# EAGLE library part 43650-0513-7 (library molex)
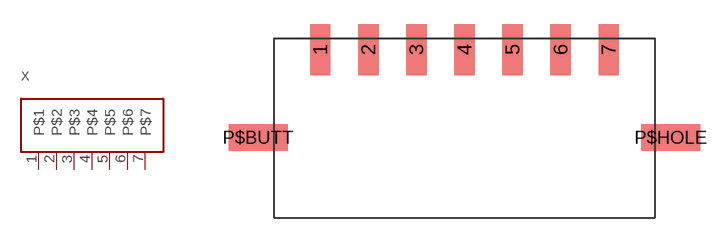
[diagram p92: symbol with the pads of 43650-0513-7; footprint 43650-0513-7]

Designator prefix X

## 43650-0513-7  [43650-0513-7]
1  P$1
2  P$2
3  P$3
4  P$4
5  P$5
6  P$6
7  P$7

## Footprint 43650-0513-7 (pad centres in mm)
smd 1.27 x 3.175: 1 -8.992,-1.46; 2 -5.994,-1.46; 3 -2.997,-1.46; 4 0,-1.46; 5 2.997,-1.46; 6 5.994,-1.46; 7 8.992,-1.46
smd 3.683 x 1.651: P$BUTT -12.865,-6.934; P$HOLE 12.865,-6.934